# Altium footprint library Landzo电源模块V3.0.PcbLib: 12 footprints
Each footprint in its own frame and in the unit in brackets; x right, y up, seen from the top. Pads: shape width x height; smd on the part's side, far side on the other; paste and mask are expansions set on the pad; w line width, h text height; cw(c..) or ccw(c..) is an arc to the next point about the centre after c.
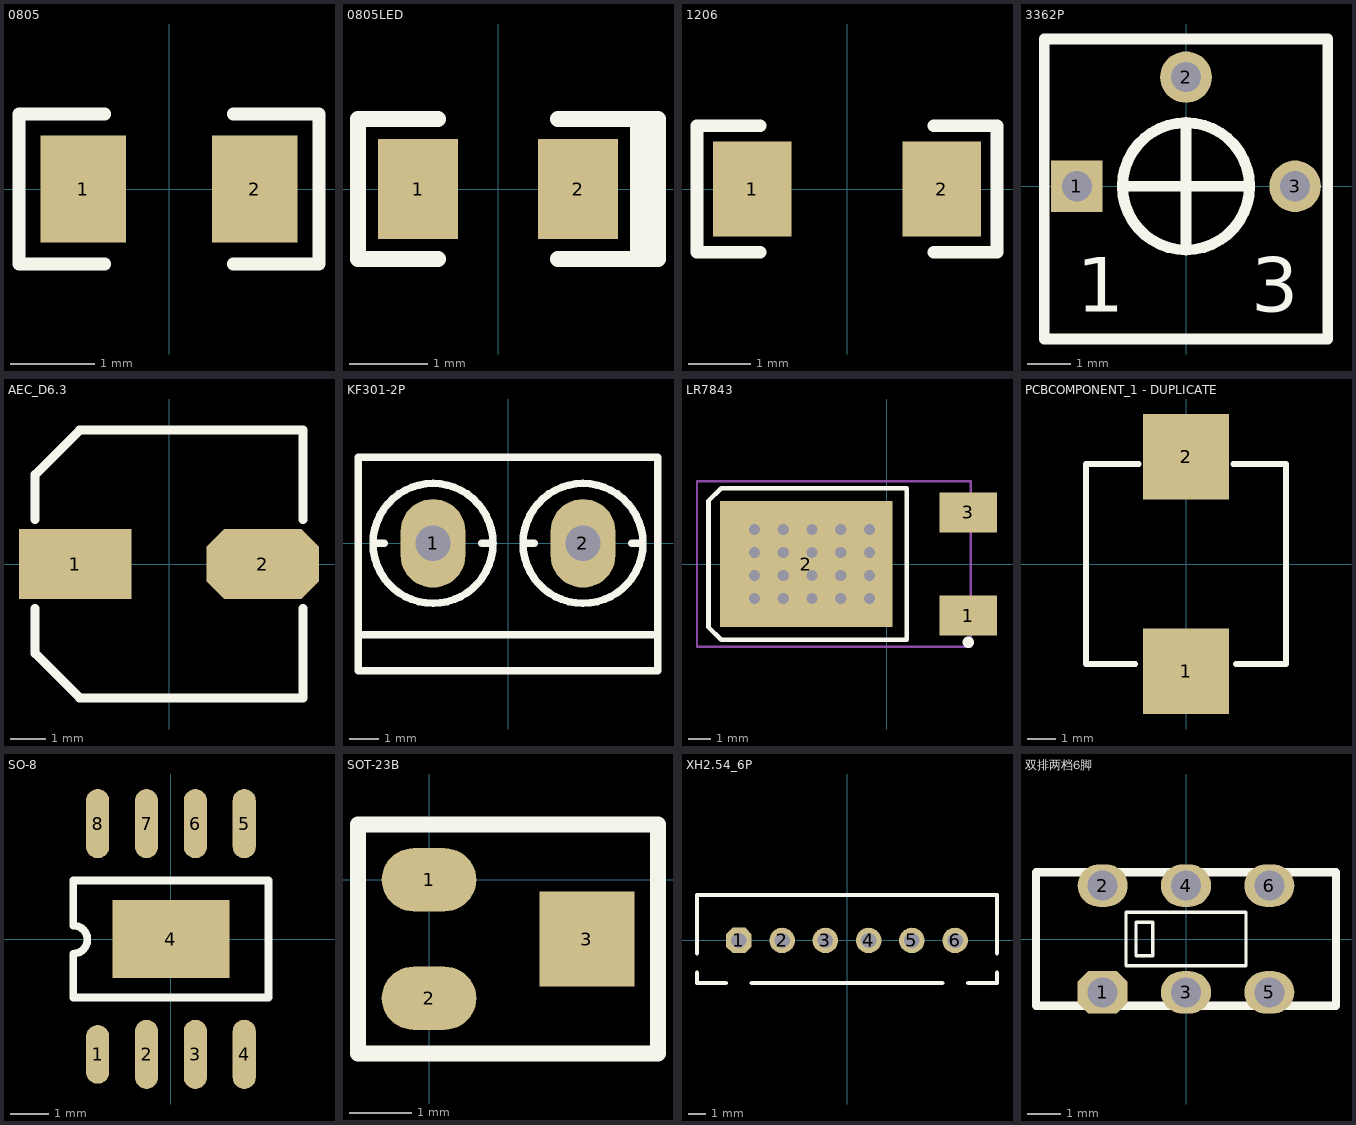
[diagram p0: the footprints below, top view; thin cyan lines are the x and y axes]

## 0805 [mil]
pads (2):
  rect 40x50 smd: 1(-40,0) 2(40,0)
Top Overlay:
  lines w6: -30,-35 -70,-35 -70,35 -30,35 ; 30,-35 70,-35 70,35 30,35

## 0805LED [mil]
pads (2):
  rect 40x50 smd: 1(-40,0) 2(40,0)
Top Overlay:
  lines w7.87: -70,-35 -30,-35 ; -70,35 -30,35 ; 30,-35 80,-35 ; 30,35 80,35
  lines w8: -70,-35 -70,35 ; 70,-35 70,35 ; 75,-35 75,35 ; 80,-35 80,35
3D body: height 43.31, standoff 0, extent -39.76,-24.21 39.76,25

## 1206 [mil]
pads (2):
  rect 50x60 smd: 1(-60,0) 2(60,0)
Top Overlay:
  lines w7.87: -95,-40 -55,-40 ; -95,40 -55,40 ; 55,-40 95,-40 ; 55,40 95,40
  lines w8: -95,-40 -95,40 ; 95,-40 95,40

## 3362P [mm]
pads (3):
  rect 1.2x1.2 hole 0.7: 1(-2.54,0)
  round 1.2 hole 0.7: 2(0,2.54) 3(2.54,0)
Top Overlay:
  circle w0.254: c0,0 r1.481
  lines w0.254: -1.397,0 1.397,0 ; 0,-1.397 0,1.397 ; -3.3,-3.556 3.3,-3.556 3.3,3.429 -3.3,3.429 -3.3,-3.556
  text "3" at 1.524,-2.921 h1.27
  text "1" at -2.54,-2.921 h1.27

## AEC_D6.3 [mm]
pads (2):
  rect 3.2x2 smd: 1(-2.667,0)
  oct 3.2x2 smd: 2(2.667,0)
Top Overlay:
  lines w0.254: -3.81,-1.27 -3.81,-2.54 -2.54,-3.81 3.81,-3.81 3.81,-1.27 ; -3.81,1.27 -3.81,2.54 -2.54,3.81 3.81,3.81 3.81,1.27

## KF301-2P [mm]
pads (2):
  oval 2.2x3 hole 1.2: 1(-2.54,0) 2(2.54,0)
Top Overlay:
  circle w0.254: c2.54,0 r2.032
  circle w0.254: c-2.54,0 r2.032
  lines w0.254: -5.08,-3.1 5.08,-3.1 ; -4.572,0 -4.191,0 ; -0.889,0 -0.508,0 ; 0.508,0 0.889,0 ; 4.191,0 4.572,0 ; -5.08,-4.318 5.08,-4.318 5.08,2.921 -5.08,2.921 -5.08,-4.318

## LR7843 [mm]
pads (3):
  rect 2.54x1.778 smd: 1(3.6,-2.28) 3(3.6,2.28)
  rect 7.6x5.55 smd: 2(-3.556,0)
via -0.762,-1.524 diameter 0.8 hole 0.5
via -2.032,-1.524 diameter 0.8 hole 0.5
via -4.572,-1.524 diameter 0.8 hole 0.5
via -5.842,-1.524 diameter 0.8 hole 0.5
via -3.302,-1.524 diameter 0.8 hole 0.5
via -2.032,-0.508 diameter 0.8 hole 0.5
via -3.302,-0.508 diameter 0.8 hole 0.5
via -0.762,-0.508 diameter 0.8 hole 0.5
via -4.572,-0.508 diameter 0.8 hole 0.5
via -5.842,-0.508 diameter 0.8 hole 0.5
via -5.842,0.508 diameter 0.8 hole 0.5
via -0.762,0.508 diameter 0.8 hole 0.5
via -0.762,1.524 diameter 0.8 hole 0.5
via -2.032,1.524 diameter 0.8 hole 0.5
via -2.032,0.508 diameter 0.8 hole 0.5
via -3.302,0.508 diameter 0.8 hole 0.5
via -3.302,1.524 diameter 0.8 hole 0.5
via -4.572,1.524 diameter 0.8 hole 0.5
via -4.572,0.508 diameter 0.8 hole 0.5
via -5.842,1.524 diameter 0.8 hole 0.5
Top Overlay:
  circle w0.25: c3.6,-3.455 r0.125
  lines w0.2: -7.874,-2.794 -7.318,-3.35 0.889,-3.35 0.889,3.35 -7.318,3.35 -7.874,2.794 -7.874,-2.794
Mechanical 15:
  lines w0.1: -1.85,0 -0.85,0 ; -1.35,-0.5 -1.35,0.5 ; -8.382,-3.65 3.705,-3.65 3.705,3.65 -8.382,3.65 -8.382,-3.65

## PCBCOMPONENT_1 - DUPLICATE [mm]
pads (2):
  rect 3x3 smd: 1(0,-3.75) 2(0,3.75)
Top Overlay:
  lines w0.2: -1.778,-3.5 -3.5,-3.5 -3.5,3.5 -1.651,3.5 ; 1.651,3.5 3.5,3.5 3.5,-3.5 1.75,-3.5

## SO-8 [mm]
pads (9):
  oval 0.6x1.524 smd: 1(-1.905,-3)
  oval 0.6x1.8 smd: 2(-0.635,-3) 3(0.635,-3) 4(1.905,-3) 5(1.905,3) 6(0.635,3) 7(-0.635,3) 8(-1.905,3)
  rect 3.048x2.032 smd: 4(0,0)
Top Overlay:
  lines w0.2: -2.54,-1.524 -2.54,-0.41 ; -2.54,-0.381 ccw(c-2.54,-0.014) -2.54,0.352 ; -2.54,0.381 -2.54,1.524
  lines w0.203: -2.54,-1.524 2.54,-1.524 2.54,1.524 -2.54,1.524

## SOT-23B [mil]
pads (3):
  oval 60x40 smd: 1(0,0) 2(0,-75)
  rect 60x60 smd: 3(100,-37.5)
Top Overlay:
  lines w10: -45,-110 -45,35 145,35 145,-110 -45,-110

## XH2.54_6P [mm]
pads (6):
  oct 1.5x1.5 hole 0.9: 1(-6.35,0)
  round 1.5 hole 0.9: 2(-3.81,0) 3(-1.27,0) 4(1.27,0) 5(3.81,0) 6(6.35,0)
Top Overlay:
  lines w0.254: -8.81,-1.905 -8.81,-2.5 -7.112,-2.5 ; -8.81,-0.762 -8.81,2.667 8.81,2.667 8.81,-0.762 ; -5.588,-2.5 5.588,-2.5 ; 7.112,-2.5 8.81,-2.5 8.81,-1.905

## 双排两档6脚 [mm]
pads (6):
  oct 1.5x1.27 hole 0.9: 1(-2.5,-1.6)
  oval 1.5x1.27 hole 0.9: 2(-2.5,1.6) 3(0,-1.6) 4(0,1.6) 5(2.5,-1.6) 6(2.5,1.6)
Top Overlay:
  lines w0.102: -1.8,-0.8 1.8,-0.8 1.8,0.8 -1.8,0.8 -1.8,-0.8 ; -1.5,-0.5 -1.5,0.5 -1,0.5 -1,-0.5 -1.5,-0.5
  lines w0.254: -4.5,-2 4.5,-2 4.5,2 -4.5,2 -4.5,-2
3D body: height 3.5, standoff 0, extent -4.5,-1.5 4.5,1.5
3D body: height 5.5, standoff 0, extent -1.5,-0.5 -0.5,0.5